# Altium integrated library WE-MAPI (rev25a).IntLib: 184 symbols (part 4 of 4)
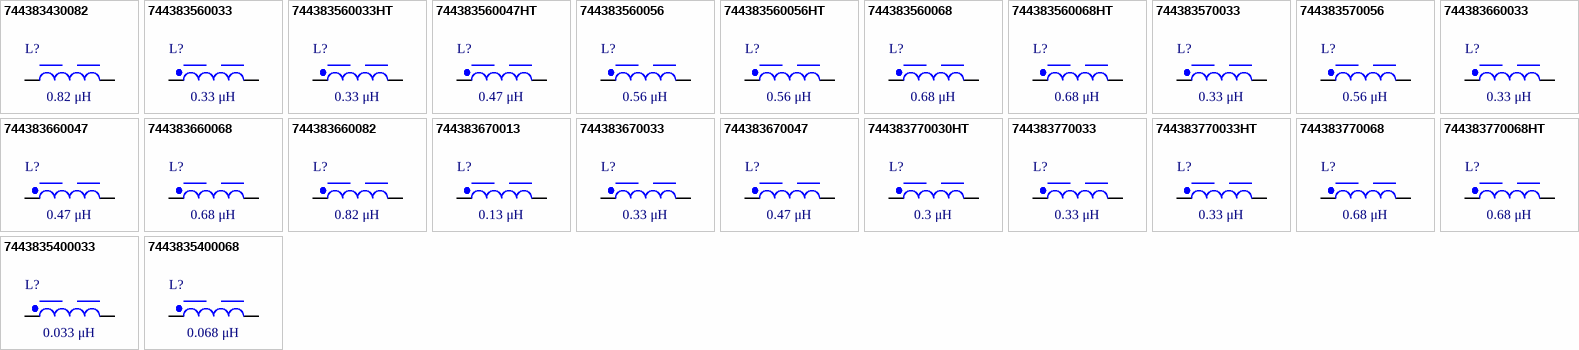
[diagram p7: symbols 744383430082 to 7443835400068]

## 744383560056HT
designator L?, comment 0.56 μH
WE-MAPI SMT Power Inductor, size 4020, 0.56 μH, 12.15 A, 7.5 mΩ; Manufacturer Part Number: 744383560056HT; Manufacturer: Wurth Elektronik; Case/Size Code: 4020; DC Resistance: 7.5 mΩ; Operating Voltage (DC): 80 V; Performance Rated Current: 12.15 A; Saturation Current @ 30%: 13 A; Self Resonant Frequency: 72 MHz; Category: Power Inductors; Match Code: WE-MAPI; ComponentLink1Description: Website Link; ComponentLink1URL: https://www.we-online.com/redexpert/article/744383560056HT?ad; ComponentLink2Description: Datasheet Link; ComponentLink2URL: https://www.we-online.com/redexpert/spec/744383560056HT?ad; Mount: Surface Mount; Min Operating Temperature: -55 °C; Max Operating Temperature: 150 °C; Packaging: Tape and Reel; Length: 4.1 mm; Width: 4.1 mm; Height: 2.1 mm; Inductance: 0.56 μH
footprint WE-MAPI_4020
simulation model 4020_744383560056HT_0.56u
pins: 1, 2

## 744383560068
designator L?, comment 0.68 μH
WE-MAPI SMT Power Inductor, size 4020, 0.68 μH, 13.15 A, 7.5 mΩ; Manufacturer Part Number: 744383560068; Manufacturer: Wurth Elektronik; Case/Size Code: 4020; DC Resistance: 7.5 mΩ; Operating Voltage (DC): 80 V; Performance Rated Current: 13.15 A; Saturation Current @ 30%: 12.7 A; Self Resonant Frequency: 75 MHz; Category: Power Inductors; Match Code: WE-MAPI; ComponentLink1Description: Website Link; ComponentLink1URL: https://www.we-online.com/redexpert/article/744383560068?ad; ComponentLink2Description: Datasheet Link; ComponentLink2URL: https://www.we-online.com/redexpert/spec/744383560068?ad; Mount: Surface Mount; Min Operating Temperature: -40 °C; Max Operating Temperature: 125 °C; Packaging: Tape and Reel; Length: 4.1 mm; Width: 4.1 mm; Height: 2.1 mm; Inductance: 0.68 μH
footprint WE-MAPI_4020
simulation model 4020_744383560068_0.68u
pins: 1, 2

## 744383560068HT
designator L?, comment 0.68 μH
WE-MAPI SMT Power Inductor, size 4020, 0.68 μH, 11.7 A, 8 mΩ; Manufacturer Part Number: 744383560068HT; Manufacturer: Wurth Elektronik; Case/Size Code: 4020; DC Resistance: 8 mΩ; Operating Voltage (DC): 80 V; Performance Rated Current: 11.7 A; Self Resonant Frequency: 67 MHz; Category: Power Inductors; Match Code: WE-MAPI; ComponentLink1Description: Website Link; ComponentLink1URL: https://www.we-online.com/redexpert/article/744383560068HT?ad; ComponentLink2Description: Datasheet Link; ComponentLink2URL: https://www.we-online.com/redexpert/spec/744383560068HT?ad; Mount: Surface Mount; Min Operating Temperature: -55 °C; Max Operating Temperature: 150 °C; Packaging: Tape and Reel; Length: 4.1 mm; Width: 4.1 mm; Height: 2.1 mm; Inductance: 0.68 μH; Saturation Current @ 30%: 11.7 A
footprint WE-MAPI_4020
simulation model 4020_744383560068HT_0.68u
pins: 1, 2

## 744383570033
designator L?, comment 0.33 μH
WE-MAPI SMT Power Inductor, size 4030, 0.33 μH, 15.8 A, 4.3 mΩ; Manufacturer Part Number: 744383570033; Manufacturer: Wurth Elektronik; Case/Size Code: 4030; DC Resistance: 4.3 mΩ; Operating Voltage (DC): 80 V; Performance Rated Current: 15.8 A; Saturation Current @ 30%: 14.5 A; Self Resonant Frequency: 96 MHz; Category: Power Inductors; Match Code: WE-MAPI; ComponentLink1Description: Website Link; ComponentLink1URL: https://www.we-online.com/redexpert/article/744383570033?ad; ComponentLink2Description: Datasheet Link; ComponentLink2URL: https://www.we-online.com/redexpert/spec/744383570033?ad; Mount: Surface Mount; Min Operating Temperature: -40 °C; Max Operating Temperature: 125 °C; Packaging: Tape and Reel; Length: 4.1 mm; Width: 4.1 mm; Height: 3.1 mm; Inductance: 0.33 μH
footprint WE-MAPI_4030
simulation model 4030_744383570033_0.33u
pins: 1, 2

## 744383570056
designator L?, comment 0.56 μH
WE-MAPI SMT Power Inductor, size 4030, 0.56 μH, 13.4 A, 5.9 mΩ; Manufacturer Part Number: 744383570056; Manufacturer: Wurth Elektronik; Case/Size Code: 4030; DC Resistance: 5.9 mΩ; Operating Voltage (DC): 80 V; Performance Rated Current: 13.4 A; Saturation Current @ 30%: 13.2 A; Self Resonant Frequency: 79 MHz; Category: Power Inductors; Match Code: WE-MAPI; ComponentLink1Description: Website Link; ComponentLink1URL: https://www.we-online.com/redexpert/article/744383570056?ad; ComponentLink2Description: Datasheet Link; ComponentLink2URL: https://www.we-online.com/redexpert/spec/744383570056?ad; Mount: Surface Mount; Min Operating Temperature: -40 °C; Max Operating Temperature: 125 °C; Packaging: Tape and Reel; Length: 4.1 mm; Width: 4.1 mm; Height: 3.1 mm; Inductance: 0.56 μH
footprint WE-MAPI_4030
simulation model 4030_744383570056_0.56u
pins: 1, 2

## 744383660033
designator L?, comment 0.33 μH
WE-MAPI SMT Power Inductor, size 5020, 0.33 μH, 19.8 A, 3.1 mΩ; Manufacturer Part Number: 744383660033; Manufacturer: Wurth Elektronik; Case/Size Code: 5020; DC Resistance: 3.1 mΩ; Operating Voltage (DC): 80 V; Performance Rated Current: 19.8 A; Saturation Current @ 30%: 22.9 A; Self Resonant Frequency: 100 MHz; Category: Power Inductors; Match Code: WE-MAPI; ComponentLink1Description: Website Link; ComponentLink1URL: https://www.we-online.com/redexpert/article/744383660033?ad; ComponentLink2Description: Datasheet Link; ComponentLink2URL: https://www.we-online.com/redexpert/spec/744383660033?ad; Mount: Surface Mount; Min Operating Temperature: -40 °C; Max Operating Temperature: 125 °C; Packaging: Tape and Reel; Length: 5.4 mm; Width: 5.4 mm; Height: 2.1 mm; Inductance: 0.33 μH
footprint WE-MAPI_5020
simulation model 5020_744383660033_0.33u
pins: 1, 2

## 744383660047
designator L?, comment 0.47 μH
WE-MAPI SMT Power Inductor, size 5020, 0.47 μH, 16 A, 5.1 mΩ; Manufacturer Part Number: 744383660047; Manufacturer: Wurth Elektronik; Case/Size Code: 5020; DC Resistance: 5.1 mΩ; Operating Voltage (DC): 80 V; Performance Rated Current: 16 A; Saturation Current @ 30%: 18.9 A; Self Resonant Frequency: 72 MHz; Category: Power Inductors; Match Code: WE-MAPI; ComponentLink1Description: Website Link; ComponentLink1URL: https://www.we-online.com/redexpert/article/744383660047?ad; ComponentLink2Description: Datasheet Link; ComponentLink2URL: https://www.we-online.com/redexpert/spec/744383660047?ad; Mount: Surface Mount; Min Operating Temperature: -40 °C; Max Operating Temperature: 125 °C; Packaging: Tape and Reel; Length: 5.4 mm; Width: 5.4 mm; Height: 2.1 mm; Inductance: 0.47 μH
footprint WE-MAPI_5020
simulation model 5020_744383660047_0.47u
pins: 1, 2

## 744383660068
designator L?, comment 0.68 μH
WE-MAPI SMT Power Inductor, size 5020, 0.68 μH, 14.4 A, 6.3 mΩ; Manufacturer Part Number: 744383660068; Manufacturer: Wurth Elektronik; Case/Size Code: 5020; DC Resistance: 6.3 mΩ; Operating Voltage (DC): 80 V; Performance Rated Current: 14.4 A; Saturation Current @ 30%: 16.2 A; Self Resonant Frequency: 59 MHz; Category: Power Inductors; Match Code: WE-MAPI; ComponentLink1Description: Website Link; ComponentLink1URL: https://www.we-online.com/redexpert/article/744383660068?ad; ComponentLink2Description: Datasheet Link; ComponentLink2URL: https://www.we-online.com/redexpert/spec/744383660068?ad; Mount: Surface Mount; Min Operating Temperature: -40 °C; Max Operating Temperature: 125 °C; Packaging: Tape and Reel; Length: 5.4 mm; Width: 5.4 mm; Height: 2.1 mm; Inductance: 0.68 μH
footprint WE-MAPI_5020
simulation model 5020_744383660068_0.68u
pins: 1, 2

## 744383660082
designator L?, comment 0.82 μH
WE-MAPI SMT Power Inductor, size 5020, 0.82 μH, 13.25 A, 8.3 mΩ; Manufacturer Part Number: 744383660082; Manufacturer: Wurth Elektronik; Case/Size Code: 5020; DC Resistance: 8.3 mΩ; Operating Voltage (DC): 80 V; Performance Rated Current: 13.25 A; Saturation Current @ 30%: 15.3 A; Self Resonant Frequency: 53.5 MHz; Category: Power Inductors; Match Code: WE-MAPI; ComponentLink1Description: Website Link; ComponentLink1URL: https://www.we-online.com/redexpert/article/744383660082?ad; ComponentLink2Description: Datasheet Link; ComponentLink2URL: https://www.we-online.com/redexpert/spec/744383660082?ad; Mount: Surface Mount; Min Operating Temperature: -40 °C; Max Operating Temperature: 125 °C; Packaging: Tape and Reel; Length: 5.4 mm; Width: 5.4 mm; Height: 2.1 mm; Inductance: 0.82 μH
footprint WE-MAPI_5020
simulation model 5020_744383660082_0.82u
pins: 1, 2

## 744383670013
designator L?, comment 0.13 μH
WE-MAPI SMT Power Inductor, size 5030, 0.13 μH, 27.4 A, 1.4 mΩ; Manufacturer Part Number: 744383670013; Manufacturer: Wurth Elektronik; Case/Size Code: 5030; DC Resistance: 1.4 mΩ; Operating Voltage (DC): 80 V; Performance Rated Current: 27.4 A; Saturation Current @ 30%: 30 A; Self Resonant Frequency: 189 MHz; Category: Power Inductors; Match Code: WE-MAPI; ComponentLink1Description: Website Link; ComponentLink1URL: https://www.we-online.com/redexpert/article/744383670013?ad; ComponentLink2Description: Datasheet Link; ComponentLink2URL: https://www.we-online.com/redexpert/spec/744383670013?ad; Mount: Surface Mount; Min Operating Temperature: -40 °C; Max Operating Temperature: 125 °C; Packaging: Tape and Reel; Length: 5.4 mm; Width: 5.4 mm; Height: 3.1 mm; Inductance: 0.13 μH
footprint WE-MAPI_5030
simulation model 5030_744383670013_0.13u
pins: 1, 2

## 744383670033
designator L?, comment 0.33 μH
WE-MAPI SMT Power Inductor, size 5030, 0.33 μH, 21.6 A, 2.8 mΩ; Manufacturer Part Number: 744383670033; Manufacturer: Wurth Elektronik; Case/Size Code: 5030; DC Resistance: 2.8 mΩ; Operating Voltage (DC): 80 V; Performance Rated Current: 21.6 A; Saturation Current @ 30%: 26.5 A; Self Resonant Frequency: 108 MHz; Category: Power Inductors; Match Code: WE-MAPI; ComponentLink1Description: Website Link; ComponentLink1URL: https://www.we-online.com/redexpert/article/744383670033?ad; ComponentLink2Description: Datasheet Link; ComponentLink2URL: https://www.we-online.com/redexpert/spec/744383670033?ad; Mount: Surface Mount; Min Operating Temperature: -40 °C; Max Operating Temperature: 125 °C; Packaging: Tape and Reel; Length: 5.4 mm; Width: 5.4 mm; Height: 3.1 mm; Inductance: 0.33 μH
footprint WE-MAPI_5030
simulation model 5030_744383670033_0.33u
pins: 1, 2

## 744383670047
designator L?, comment 0.47 μH
WE-MAPI SMT Power Inductor, size 5030, 0.47 μH, 20.8 A, 3.5 mΩ; Manufacturer Part Number: 744383670047; Manufacturer: Wurth Elektronik; Case/Size Code: 5030; DC Resistance: 3.5 mΩ; Operating Voltage (DC): 80 V; Performance Rated Current: 20.8 A; Saturation Current @ 30%: 20 A; Self Resonant Frequency: 72 MHz; Category: Power Inductors; Match Code: WE-MAPI; ComponentLink1Description: Website Link; ComponentLink1URL: https://www.we-online.com/redexpert/article/744383670047?ad; ComponentLink2Description: Datasheet Link; ComponentLink2URL: https://www.we-online.com/redexpert/spec/744383670047?ad; Mount: Surface Mount; Min Operating Temperature: -40 °C; Max Operating Temperature: 125 °C; Packaging: Tape and Reel; Length: 5.4 mm; Width: 5.4 mm; Height: 3.1 mm; Inductance: 0.47 μH
footprint WE-MAPI_5030
simulation model 5030_744383670047_0.47u
pins: 1, 2

## 744383770030HT
designator L?, comment 0.3 μH
WE-MAPI SMT Power Inductor, size 6030, 0.3 μH, 15.8 A, 2.4 mΩ; Manufacturer Part Number: 744383770030HT; Manufacturer: Wurth Elektronik; Case/Size Code: 6030; DC Resistance: 2.4 mΩ; Performance Rated Current: 15.8 A; Saturation Current @ 30%: 35 A; Self Resonant Frequency: 119 MHz; Category: Power Inductors; Match Code: WE-MAPI; ComponentLink1Description: Website Link; ComponentLink1URL: https://www.we-online.com/redexpert/article/744383770030HT?ad; ComponentLink2Description: Datasheet Link; ComponentLink2URL: https://www.we-online.com/redexpert/spec/744383770030HT?ad; Mount: Surface Mount; Min Operating Temperature: -55 °C; Max Operating Temperature: 150 °C; Packaging: Tape and Reel; Length: 6.6 mm; Width: 6.6 mm; Height: 3.1 mm; Inductance: 0.3 μH
footprint WE-MAPI_6030
pins: 1, 2

## 744383770033
designator L?, comment 0.33 μH
WE-MAPI SMT Power Inductor, size 6030, 0.33 μH, 22.8 A, 2.5 mΩ; Manufacturer Part Number: 744383770033; Manufacturer: Wurth Elektronik; Case/Size Code: 6030; DC Resistance: 2.5 mΩ; Operating Voltage (DC): 80 V; Performance Rated Current: 22.8 A; Saturation Current @ 30%: 29 A; Self Resonant Frequency: 93 MHz; Category: Power Inductors; Match Code: WE-MAPI; ComponentLink1Description: Website Link; ComponentLink1URL: https://www.we-online.com/redexpert/article/744383770033?ad; ComponentLink2Description: Datasheet Link; ComponentLink2URL: https://www.we-online.com/redexpert/spec/744383770033?ad; Mount: Surface Mount; Min Operating Temperature: -40 °C; Max Operating Temperature: 125 °C; Packaging: Tape and Reel; Length: 6.6 mm; Width: 6.6 mm; Height: 3.1 mm; Inductance: 0.33 μH
footprint WE-MAPI_6030
simulation model 6030_744383770033_0.33u
pins: 1, 2

## 744383770033HT
designator L?, comment 0.33 μH
WE-MAPI SMT Power Inductor, size 6030, 0.33 μH, 21.6 A, 2.6 mΩ; Manufacturer Part Number: 744383770033HT; Manufacturer: Wurth Elektronik; Case/Size Code: 6030; DC Resistance: 2.6 mΩ; Operating Voltage (DC): 80 V; Performance Rated Current: 21.6 A; Saturation Current @ 30%: 27.5 A; Self Resonant Frequency: 96 MHz; Category: Power Inductors; Match Code: WE-MAPI; ComponentLink1Description: Website Link; ComponentLink1URL: https://www.we-online.com/redexpert/article/744383770033HT?ad; ComponentLink2Description: Datasheet Link; ComponentLink2URL: https://www.we-online.com/redexpert/spec/744383770033HT?ad; Mount: Surface Mount; Min Operating Temperature: -55 °C; Max Operating Temperature: 150 °C; Packaging: Tape and Reel; Length: 6.6 mm; Width: 6.6 mm; Height: 3.1 mm; Inductance: 0.33 μH
footprint WE-MAPI_6030
simulation model 6030HT_744383770033HT_0.33u
pins: 1, 2

## 744383770068
designator L?, comment 0.68 μH
WE-MAPI SMT Power Inductor, size 6030, 0.68 μH, 18.5 A, 3.7 mΩ; Manufacturer Part Number: 744383770068; Manufacturer: Wurth Elektronik; Case/Size Code: 6030; DC Resistance: 3.7 mΩ; Operating Voltage (DC): 80 V; Performance Rated Current: 18.5 A; Saturation Current @ 30%: 23.5 A; Self Resonant Frequency: 60 MHz; Category: Power Inductors; Match Code: WE-MAPI; ComponentLink1Description: Website Link; ComponentLink1URL: https://www.we-online.com/redexpert/article/744383770068?ad; ComponentLink2Description: Datasheet Link; ComponentLink2URL: https://www.we-online.com/redexpert/spec/744383770068?ad; Mount: Surface Mount; Min Operating Temperature: -40 °C; Max Operating Temperature: 125 °C; Packaging: Tape and Reel; Length: 6.6 mm; Width: 6.6 mm; Height: 3.1 mm; Inductance: 0.68 μH
footprint WE-MAPI_6030
simulation model 6030_744383770068_0.68u
pins: 1, 2

## 744383770068HT
designator L?, comment 0.68 μH
WE-MAPI SMT Power Inductor, size 6030, 0.68 μH, 16.7 A, 4.8 mΩ; Manufacturer Part Number: 744383770068HT; Manufacturer: Wurth Elektronik; Case/Size Code: 6030; DC Resistance: 4.8 mΩ; Operating Voltage (DC): 80 V; Performance Rated Current: 16.7 A; Saturation Current @ 30%: 21.5 A; Self Resonant Frequency: 55 MHz; Category: Power Inductors; Match Code: WE-MAPI; ComponentLink1Description: Website Link; ComponentLink1URL: https://www.we-online.com/redexpert/article/744383770068HT?ad; ComponentLink2Description: Datasheet Link; ComponentLink2URL: https://www.we-online.com/redexpert/spec/744383770068HT?ad; Mount: Surface Mount; Min Operating Temperature: -55 °C; Max Operating Temperature: 150 °C; Packaging: Tape and Reel; Length: 6.6 mm; Width: 6.6 mm; Height: 3.1 mm; Inductance: 0.68 μH
footprint WE-MAPI_6030
simulation model 6030HT_744383770068HT_0.68u
pins: 1, 2

## 7443835400033
designator L?, comment 0.033 μH
WE-MAPI SMT Power Inductor, size 4012, 0.033 μH, 33.5 A, 0.9 mΩ; Manufacturer Part Number: 7443835400033; Manufacturer: Wurth Elektronik; Case/Size Code: 4012; DC Resistance: 0.9 mΩ; Operating Voltage (DC): 80 V; Performance Rated Current: 33.5 A; Saturation Current @ 30%: 40 A; Self Resonant Frequency: 682 MHz; Category: Power Inductors; Match Code: WE-MAPI; ComponentLink1Description: Website Link; ComponentLink1URL: https://www.we-online.com/redexpert/article/7443835400033?ad; ComponentLink2Description: Datasheet Link; ComponentLink2URL: https://www.we-online.com/redexpert/spec/7443835400033?ad; Mount: Surface Mount; Min Operating Temperature: -40 °C; Max Operating Temperature: 125 °C; Packaging: Tape and Reel; Length: 4.1 mm; Width: 4.1 mm; Height: 1.3 mm; Inductance: 0.033 μH
footprint WE-MAPI_4012
simulation model 4012_7443835400033_0.033u
pins: 1, 2

## 7443835400068
designator L?, comment 0.068 μH
WE-MAPI SMT Power Inductor, size 4012, 0.068 μH, 27 A, 1.7 mΩ; Manufacturer Part Number: 7443835400068; Manufacturer: Wurth Elektronik; Case/Size Code: 4012; DC Resistance: 1.7 mΩ; Operating Voltage (DC): 80 V; Performance Rated Current: 27 A; Saturation Current @ 30%: 38 A; Self Resonant Frequency: 374 MHz; Category: Power Inductors; Match Code: WE-MAPI; ComponentLink1Description: Website Link; ComponentLink1URL: https://www.we-online.com/redexpert/article/7443835400068?ad; ComponentLink2Description: Datasheet Link; ComponentLink2URL: https://www.we-online.com/redexpert/spec/7443835400068?ad; Mount: Surface Mount; Min Operating Temperature: -40 °C; Max Operating Temperature: 125 °C; Packaging: Tape and Reel; Length: 4.1 mm; Width: 4.1 mm; Height: 1.3 mm; Inductance: 0.068 μH
footprint WE-MAPI_4012
simulation model 4012_7443835400068_0.068u
pins: 1, 2